# Altium integrated library Analog Devices Data Converters Digital-to-Analog Converters.IntLib: 2231 symbols (part 42 of 181)
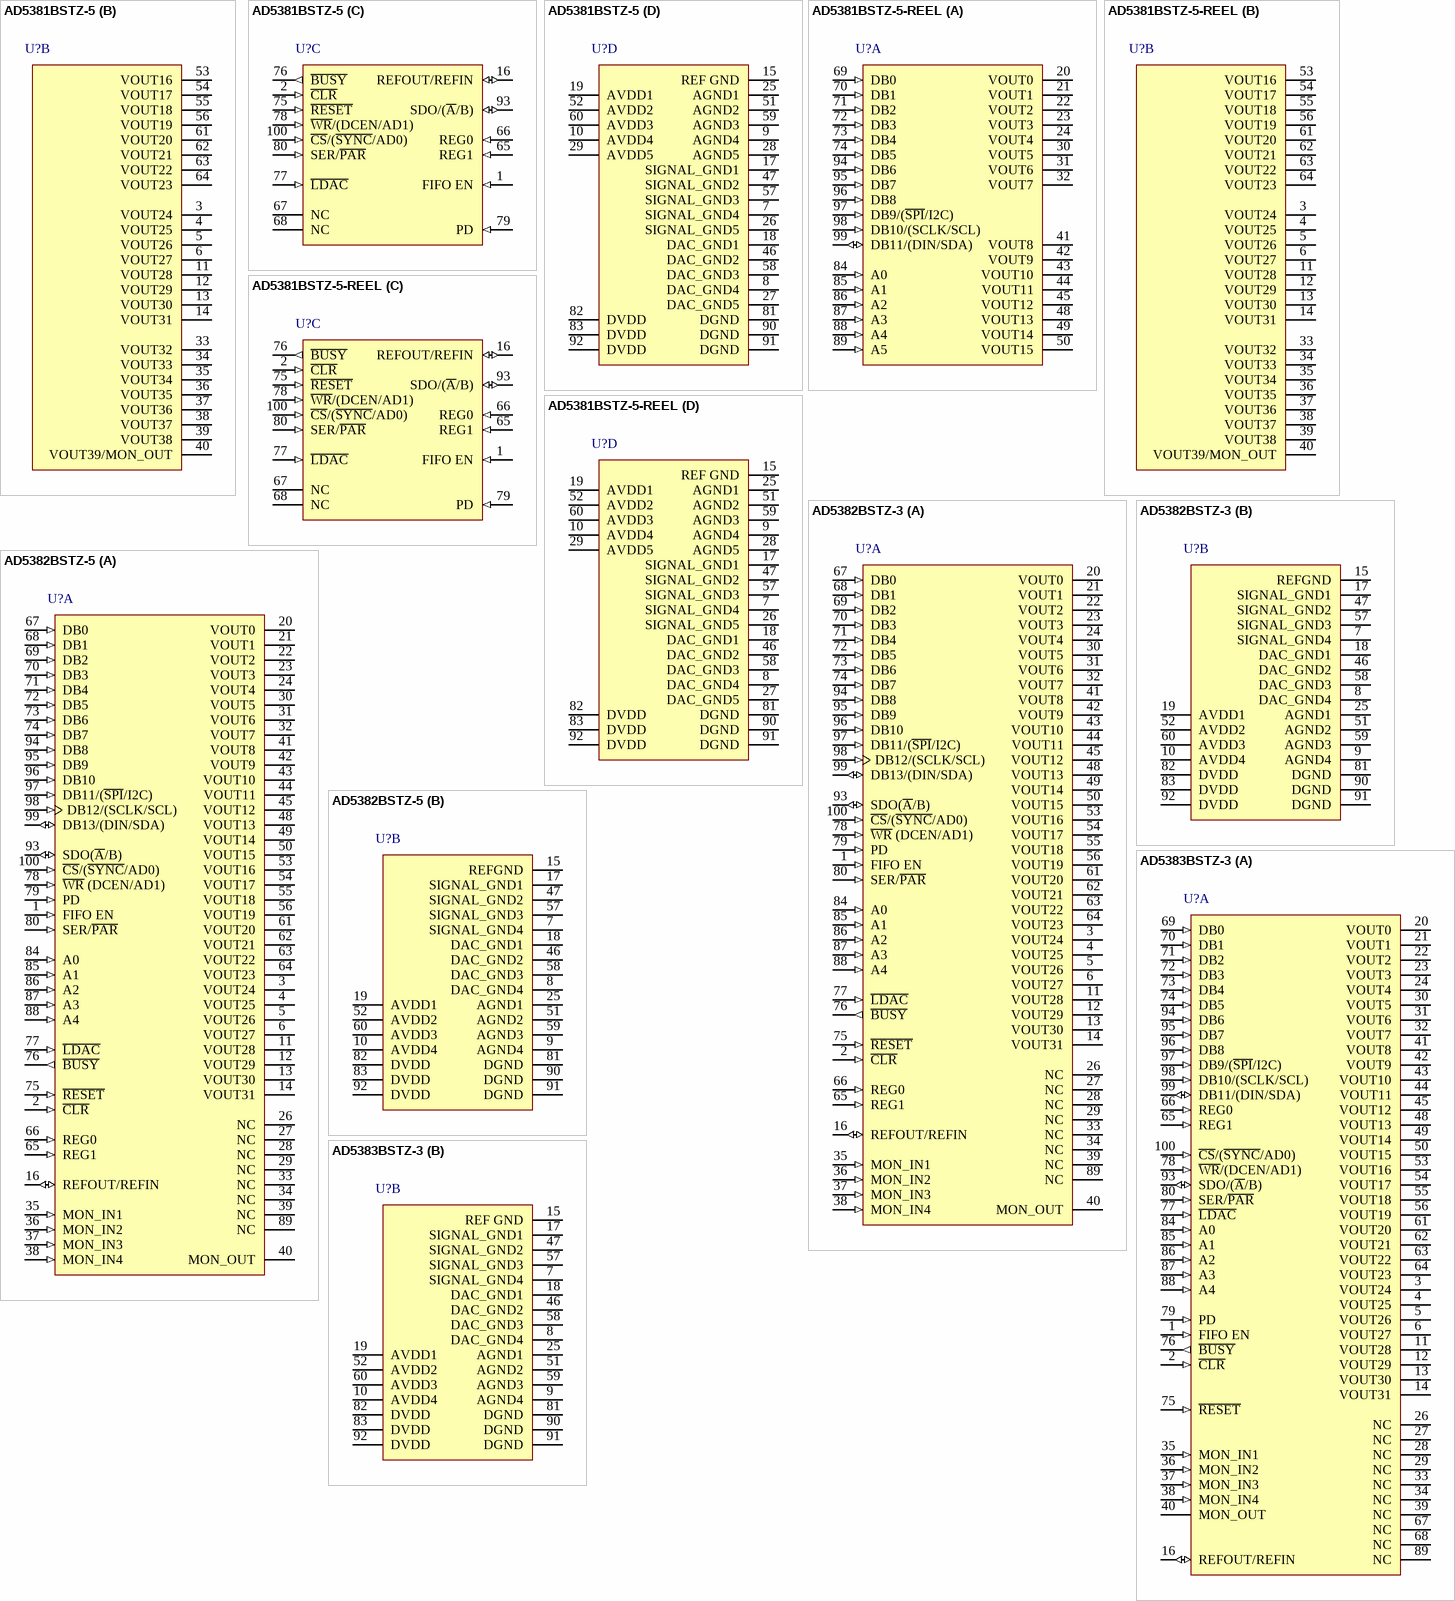
[diagram p155: symbols AD5381BSTZ-5 to AD5383BSTZ-3]

## AD5381BSTZ-5
designator U?
40 Channel 12-Bit Single-Supply Voltage Output Digital-to-Analog Converter, 5 V, -40 to +85 degC, ST-100-1, Pb-Free, Tray; Generic Part Number: AD5381; Manufacturer: Analog Devices; PartNumber: AD5381BSTZ-5; # DAC Outputs: 40; Max V+: 5.5V; Resolution (Bits): 12; Settling Time: 6µs; Single Supply: Yes; DatasheetVersion: Rev.C; PackageVersion: Jul-2007; PackageReference: ST-100-1; PackageDescription: 100-Lead Low Profile Quad Flat Package, 14 x 14 x 1.4 mm Body [LQFP]; Supplier 1: Digi-Key; Supplier Part Number 1: AD5381BSTZ-5-ND; Supplier 2: Mouser; Supplier Part Number 2: 584-AD5381BSTZ-5; Packing: Tray; RoHS: Y; Mounting Technology: Surface Mount; Code_JEDEC: MS-026-BED; ComponentLink1Description: Manufacturer URL; ComponentLink1URL: http://www.analog.com/en/index.html; ComponentLink2Description: Datasheet; ComponentLink2URL: http://www.analog.com/static/imported-files/data_sheets/AD5381.pdf; ComponentLink3Description: Package Specification; ComponentLink3URL: http://www.analog.com/static/imported-files/packages/92490886ST_100_1.pdf; ComponentLink4Description: Product URL; ComponentLink4URL: http://www.analog.com/en/digital-to-analog-converters/da-converters/ad5381/products/product.html; ComponentLink5Description: Reference Design URL; ComponentLink5URL: http://www.analog.com/en/digital-to-analog-converters/da-converters/ad5381/products/product.html#prod_cross_sell
footprint ST-100-1_V (Thin QFP, 100-Leads, Body 14x14mm, Pitch 0.5mm, AD Recommended)
footprint ST-100-1_N (Thin QFP, 100-Leads, Body 14x14mm, Pitch 0.5mm, IPC Medium Density)
footprint ST-100-1_L (Thin QFP, 100-Leads, Body 14x14mm, Pitch 0.5mm, IPC High Density)
footprint ST-100-1_M (Thin QFP, 100-Leads, Body 14x14mm, Pitch 0.5mm, IPC Low Density)
part A pins: 20 VOUT0 (hiz) "Buffered Analog Output for Channel 0. Each analog output is driven by a rail-to-rail output amplifier operating at a gain of 2. Each output is capable of driving an output load of 5 kohm to ground. Typical output impedance (See Datasheet)", 21 VOUT1 (hiz) "Buffered Analog Output for Channel 1. Each analog output is driven by a rail-to-rail output amplifier operating at a gain of 2. Each output is capable of driving an output load of 5 kohm to ground. Typical output impedance (See Datasheet)", 22 VOUT2 (hiz) "Buffered Analog Output for Channel 2. Each analog output is driven by a rail-to-rail output amplifier operating at a gain of 2. Each output is capable of driving an output load of 5 kohm to ground. Typical output impedance (See Datasheet)", 23 VOUT3 (hiz) "Buffered Analog Output for Channel 3. Each analog output is driven by a rail-to-rail output amplifier operating at a gain of 2. Each output is capable of driving an output load of 5 kohm to ground. Typical output impedance (See Datasheet)", 24 VOUT4 (hiz) "Buffered Analog Output for Channel 4. Each analog output is driven by a rail-to-rail output amplifier operating at a gain of 2. Each output is capable of driving an output load of 5 kohm to ground. Typical output impedance (See Datasheet)", 30 VOUT5 (hiz) "Buffered Analog Output for Channel 5. Each analog output is driven by a rail-to-rail output amplifier operating at a gain of 2. Each output is capable of driving an output load of 5 kohm to ground. Typical output impedance (See Datasheet)", 31 VOUT6 (hiz) "Buffered Analog Output for Channel 6. Each analog output is driven by a rail-to-rail output amplifier operating at a gain of 2. Each output is capable of driving an output load of 5 kohm to ground. Typical output impedance (See Datasheet)", 32 VOUT7 (hiz) "Buffered Analog Output for Channel 7. Each analog output is driven by a rail-to-rail output amplifier operating at a gain of 2. Each output is capable of driving an output load of 5 kohm to ground. Typical output impedance (See Datasheet)", 41 VOUT8 (hiz) "Buffered Analog Output for Channel 8. Each analog output is driven by a rail-to-rail output amplifier operating at a gain of 2. Each output is capable of driving an output load of 5 kohm to ground. Typical output impedance (See Datasheet)", 42 VOUT9 (hiz) "Buffered Analog Output for Channel 9. Each analog output is driven by a rail-to-rail output amplifier operating at a gain of 2. Each output is capable of driving an output load of 5 kohm to ground. Typical output impedance (See Datasheet)", 43 VOUT10 (hiz) "Buffered Analog Output for Channel 10. Each analog output is driven by a rail-to-rail output amplifier operating at a gain of 2. Each output is capable of driving an output load of 5 kohm to ground. Typical output impedance (See Datasheet)", 44 VOUT11 (hiz) "Buffered Analog Output for Channel 11. Each analog output is driven by a rail-to-rail output amplifier operating at a gain of 2. Each output is capable of driving an output load of 5 kohm to ground. Typical output impedance (See Datasheet)", 45 VOUT12 (hiz) "Buffered Analog Output for Channel 12. Each analog output is driven by a rail-to-rail output amplifier operating at a gain of 2. Each output is capable of driving an output load of 5 kohm to ground. Typical output impedance (See Datasheet)", 48 VOUT13 (hiz) "Buffered Analog Output for Channel 13. Each analog output is driven by a rail-to-rail output amplifier operating at a gain of 2. Each output is capable of driving an output load of 5 kohm to ground. Typical output impedance (See Datasheet)", 49 VOUT14 (hiz) "Buffered Analog Output for Channel 14. Each analog output is driven by a rail-to-rail output amplifier operating at a gain of 2. Each output is capable of driving an output load of 5 kohm to ground. Typical output impedance (See Datasheet)", 50 VOUT15 (hiz) "Buffered Analog Output for Channel 15. Each analog output is driven by a rail-to-rail output amplifier operating at a gain of 2. Each output is capable of driving an output load of 5 kohm to ground. Typical output impedance (See Datasheet)", 69 DB0 (in) "Parallel Data Bus.DB0 is the LSB of the input data-word on the AD5381.", 70 DB1 (in) "Parallel Data Bus.", 71 DB2 (in) "Parallel Data Bus.", 72 DB3 (in) "Parallel Data Bus.", 73 DB4 (in) "Parallel Data Bus.", 74 DB5 (in) "Parallel Data Bus.", 84 A0 (in) "Parallel Address Input. A5 to A0 are decoded to address one of the AD5381's 40 input channels. Used in conjunction with the REG1 and REG0 pins to determine the destination register for the input data.", 85 A1 (in) "Parallel Address Input. A5 to A0 are decoded to address one of the AD5381's 40 input channels. Used in conjunction with the REG1 and REG0 pins to determine the destination register for the input data.", 86 A2 (in) "Parallel Address Input. A5 to A0 are decoded to address one of the AD5381's 40 input channels. Used in conjunction with the REG1 and REG0 pins to determine the destination register for the input data.", 87 A3 (in) "Parallel Address Input. A5 to A0 are decoded to address one of the AD5381's 40 input channels. Used in conjunction with the REG1 and REG0 pins to determine the destination register for the input data.", 88 A4 (in) "Parallel Address Input. A5 to A0 are decoded to address one of the AD5381's 40 input channels. Used in conjunction with the REG1 and REG0 pins to determine the destination register for the input data.", 89 A5 (in) "Parallel Address Input. A5 to A0 are decoded to address one of the AD5381's 40 input channels. Used in conjunction with the REG1 and REG0 pins to determine the destination register for the input data.", 94 DB6 (in) "Parallel Data Bus.", 95 DB7 (in) "Parallel Data Bus.", 96 DB8 (in) "Parallel Data Bus.", 97 DB9/(~{SPI}/I2C) (in) "Multifunction Input Pin. In parallel interface mode, this pin acts as DB9 of the parallel input data-word. In serial interface mode, this pin acts as serial interface mode select. When serial interface mode is selected (See Datasheet)", 98 DB10/(SCLK/SCL) (in) "Multifunction Input Pin. In parallel interface mode, this pin acts as DB10 of the parallel input data-word. In serial interface mode, this pin acts as a serial clock input. Serial Interface Mode. In serial interface mode, (See Datasheet)", 99 DB11/(DIN/SDA) (io) "Multifunction Data Input Pin. In parallel interface mode, this pin acts as DB11 of the parallel input data-word. Serial Interface Mode. In serial interface mode, this pin acts as the serial data input. Data must be valid on (See Datasheet)"
part B pins: 3 VOUT24 (hiz) "Buffered Analog Output for Channel 24. Each analog output is driven by a rail-to-rail output amplifier operating at a gain of 2. Each output is capable of driving an output load of 5 kohm to ground. Typical output impedance (See Datasheet)", 4 VOUT25 (hiz) "Buffered Analog Output for Channel 25. Each analog output is driven by a rail-to-rail output amplifier operating at a gain of 2. Each output is capable of driving an output load of 5 kohm to ground. Typical output impedance (See Datasheet)", 5 VOUT26 (hiz) "Buffered Analog Output for Channel 26. Each analog output is driven by a rail-to-rail output amplifier operating at a gain of 2. Each output is capable of driving an output load of 5 kohm to ground. Typical output impedance (See Datasheet)", 6 VOUT27 (hiz) "Buffered Analog Output for Channel 27. Each analog output is driven by a rail-to-rail output amplifier operating at a gain of 2. Each output is capable of driving an output load of 5 kohm to ground. Typical output impedance (See Datasheet)", 11 VOUT28 (hiz) "Buffered Analog Output for Channel 28. Each analog output is driven by a rail-to-rail output amplifier operating at a gain of 2. Each output is capable of driving an output load of 5 kohm to ground. Typical output impedance (See Datasheet)", 12 VOUT29 (hiz) "Buffered Analog Output for Channel 29. Each analog output is driven by a rail-to-rail output amplifier operating at a gain of 2. Each output is capable of driving an output load of 5 kohm to ground. Typical output impedance (See Datasheet)", 13 VOUT30 (hiz) "Buffered Analog Output for Channel 30. Each analog output is driven by a rail-to-rail output amplifier operating at a gain of 2. Each output is capable of driving an output load of 5 kohm to ground. Typical output impedance (See Datasheet)", 14 VOUT31 (hiz) "Buffered Analog Output for Channel 31. Each analog output is driven by a rail-to-rail output amplifier operating at a gain of 2. Each output is capable of driving an output load of 5 kohm to ground. Typical output impedance (See Datasheet)", 33 VOUT32 (hiz) "Buffered Analog Output for Channel 32. Each analog output is driven by a rail-to-rail output amplifier operating at a gain of 2. Each output is capable of driving an output load of 5 kohm to ground. Typical output impedance (See Datasheet)", 34 VOUT33 (hiz) "Buffered Analog Output for Channel 33. Each analog output is driven by a rail-to-rail output amplifier operating at a gain of 2. Each output is capable of driving an output load of 5 kohm to ground. Typical output impedance (See Datasheet)", 35 VOUT34 (hiz) "Buffered Analog Output for Channel 34. Each analog output is driven by a rail-to-rail output amplifier operating at a gain of 2. Each output is capable of driving an output load of 5 kohm to ground. Typical output impedance (See Datasheet)", 36 VOUT35 (hiz) "Buffered Analog Output for Channel 35. Each analog output is driven by a rail-to-rail output amplifier operating at a gain of 2. Each output is capable of driving an output load of 5 kohm to ground. Typical output impedance (See Datasheet)", 37 VOUT36 (hiz) "Buffered Analog Output for Channel 36. Each analog output is driven by a rail-to-rail output amplifier operating at a gain of 2. Each output is capable of driving an output load of 5 kohm to ground. Typical output impedance (See Datasheet)", 38 VOUT37 (hiz) "Buffered Analog Output for Channel 37. Each analog output is driven by a rail-to-rail output amplifier operating at a gain of 2. Each output is capable of driving an output load of 5 kohm to ground. Typical output impedance (See Datasheet)", 39 VOUT38 (hiz) "Buffered Analog Output for Channel 38. Each analog output is driven by a rail-to-rail output amplifier operating at a gain of 2. Each output is capable of driving an output load of 5 kohm to ground. Typical output impedance (See Datasheet)", 40 VOUT39/MON_OUT (hiz) "This pin has a dual function. It acts as a buffered output for Channel 39 in default mode. However, when the monitor function is enabled, this pin acts as the output of a 39-to-1 channel multiplexer that can be programmed to (See Datasheet)", 53 VOUT16 (hiz) "Buffered Analog Output for Channel 16. Each analog output is driven by a rail-to-rail output amplifier operating at a gain of 2. Each output is capable of driving an output load of 5 kohm to ground. Typical output impedance (See Datasheet)", 54 VOUT17 (hiz) "Buffered Analog Output for Channel 17. Each analog output is driven by a rail-to-rail output amplifier operating at a gain of 2. Each output is capable of driving an output load of 5 kohm to ground. Typical output impedance (See Datasheet)", 55 VOUT18 (hiz) "Buffered Analog Output for Channel 18. Each analog output is driven by a rail-to-rail output amplifier operating at a gain of 2. Each output is capable of driving an output load of 5 kohm to ground. Typical output impedance (See Datasheet)", 56 VOUT19 (hiz) "Buffered Analog Output for Channel 19. Each analog output is driven by a rail-to-rail output amplifier operating at a gain of 2. Each output is capable of driving an output load of 5 kohm to ground. Typical output impedance (See Datasheet)", 61 VOUT20 (hiz) "Buffered Analog Output for Channel 20. Each analog output is driven by a rail-to-rail output amplifier operating at a gain of 2. Each output is capable of driving an output load of 5 kohm to ground. Typical output impedance (See Datasheet)", 62 VOUT21 (hiz) "Buffered Analog Output for Channel 21. Each analog output is driven by a rail-to-rail output amplifier operating at a gain of 2. Each output is capable of driving an output load of 5 kohm to ground. Typical output impedance (See Datasheet)", 63 VOUT22 (hiz) "Buffered Analog Output for Channel 22. Each analog output is driven by a rail-to-rail output amplifier operating at a gain of 2. Each output is capable of driving an output load of 5 kohm to ground. Typical output impedance (See Datasheet)", 64 VOUT23 (hiz) "Buffered Analog Output for Channel 23. Each analog output is driven by a rail-to-rail output amplifier operating at a gain of 2. Each output is capable of driving an output load of 5 kohm to ground. Typical output impedance (See Datasheet)"
part C pins: 1 FIFO EN (in) "FIFO Enable (Level Sensitive, Active High). When connected to DVDD, the internal FIFO is enabled, allowing the user to write to the device at full speed. FIFO is only available in parallel interface mode. The status of the (See Datasheet)", 2 ~{CLR} (in) "Asynchronous Clear Input. The C\L\R\ input is falling edge sensitive. When C\L\R\ is activated, all channels are updated with the data contained in the C\L\R\ code register. B\U\S\Y\ is low for a duration of 35 us while all (See Datasheet)", 16 REFOUT/REFIN (io) "The AD5381 Contains a Common REFOUT/REFIN Pin. When the internal reference is selected, this pin is the reference output. If the application requires an external reference, it can be applied to this pin and the internal (See Datasheet)", 65 REG1 (in) "In parallel interface mode, REG1 and REG0 are used in decoding the destination registers for the input data. REG1 and REG0 are decoded to address the input data register, offset register, or gain register for the selected (See Datasheet)", 66 REG0 (in) "In parallel interface mode, REG1 and REG0 are used in decoding the destination registers for the input data. REG1 and REG0 are decoded to address the input data register, offset register, or gain register for the selected (See Datasheet)", 67 NC "No Connect. The user is advised not to connect any signal to these pins.", 68 NC "No Connect. The user is advised not to connect any signal to these pins.", 75 ~{RESET} (in) "Asynchronous Digital Reset Input (Falling Edge Sensitive). The function of this pin is equivalent to that of the power-on reset generator. When this pin is taken low, the state machine initiates a reset sequence to digitally (See Datasheet)", 76 ~{BUSY} (out) "Digital CMOS Output. B\U\S\Y\ goes low during internal calculations of the data (x2) loaded to the DAC data register. During this time, the user can continue writing new data to the x1, c, and m registers in parallel mode (See Datasheet)", 77 ~{LDAC} (in) "Load DAC Logic Input (Active Low). If L\D\A\C\ is taken low while B\U\S\Y\ is inactive (high), the contents of the input registers are transferred to the DAC registers and the DAC outputs are updated. If L\D\A\C\ is taken (See Datasheet)", 78 ~{WR}/(DCEN/AD1) (in) "Multifunction Pin. In parallel interface mode, this pin acts as write enable. In serial interface mode, this pin acts as a daisy-chain enable in SPI mode, and as a hardware address pin in I2C mode. Parallel Interface Write (See Datasheet)", 79 PD (in) "Power Down (Level Sensitive, Active High). PD is used to place the device in low power mode where the device consumes 2 uA analog supply current and 20 uA digital supply current. In power-down mode, all internal analog (See Datasheet)", 80 SER/~{PAR} (in) "Interface Select Input. This pin allows the user to select whether the serial or parallel interface is used. If it is tied high, the serial interface mode is selected and Pin 97 (S\P\I\/I2C) is used to determine if the (See Datasheet)", 93 SDO/(~{A}/B) (io) "Serial Data Output in Serial Interface Mode. Three-stateable CMOS output. SDO can be used for daisy-chaining a number of devices together. Data is clocked out on SDO on the rising edge of SCLK, and is valid on the falling (See Datasheet)", 100 ~{CS}/(~{SYNC}/AD0) (in) "In parallel interface mode, this pin acts as chip select input (level sensitive, active low). When low, the AD5381 is selected. Serial Interface Mode. This is the frame synchronization input signal for the serial clock and (See Datasheet)"
part D pins: 7 SIGNAL_GND4 (power) "Analog Ground Reference Points for Each Group of Eight Output Channels. All SIGNAL_GND pins are tied together internally and should be connected to the AGND plane as close as possible to the AD5381.", 8 DAC_GND4 (power) "Each group of eight channels contains a DAC_GND pin. This is the ground reference point for the internal 12-bit DAC. These pins shound be connected to the AGND plane.", 9 AGND4 (power) "Analog Ground Reference Point. Each group of eight channels contains an AGND pin. All AGND pins should be connected externally to the AGND plane.", 10 AVDD4 (power) "Analog Supply Pin. Each group of eight channels has a separate AVDD pin. These pins are shorted internally and should be decoupled with a 0.1 uF ceramic capacitor and 10 uF tantalum capacitor. Operating range for the (See Datasheet)", 15 REF GND (power) "Ground Reference Point for the Internal Reference.", 17 SIGNAL_GND1 (power) "Analog Ground Reference Points for Each Group of Eight Output Channels. All SIGNAL_GND pins are tied together internally and should be connected to the AGND plane as close as possible to the AD5383.", 18 DAC_GND1 (power) "Each group of eight channels contains a DAC_GND pin. This is the ground reference point for the internal 12-bit DAC. These pins shound be connected to the AGND plane.", 19 AVDD1 (power) "Analog Supply Pin. Each group of eight channels has a separate AVDD pin. These pins are shorted internally and should be decoupled with a 0.1 uF ceramic capacitor and 10 uF tantalum capacitor. Operating range for the (See Datasheet)", 25 AGND1 (power) "Analog Ground Reference Point. Each group of eight channels contains an AGND pin. All AGND pins should be connected externally to the AGND plane.", 26 SIGNAL_GND5 (power) "Analog Ground Reference Points for Each Group of Eight Output Channels. All SIGNAL_GND pins are tied together internally and should be connected to the AGND plane as close as possible to the AD5381.", 27 DAC_GND5 (power) "Each group of eight channels contains a DAC_GND pin. This is the ground reference point for the internal 12-bit DAC. These pins shound be connected to the AGND plane.", 28 AGND5 (power) "Analog Ground Reference Point. Each group of eight channels contains an AGND pin. All AGND pins should be connected externally to the AGND plane.", 29 AVDD5 (power) "Analog Supply Pin. Each group of eight channels has a separate AVDD pin. These pins are shorted internally and should be decoupled with a 0.1 uF ceramic capacitor and 10 uF tantalum capacitor. Operating range for the (See Datasheet)", 46 DAC_GND2 (power) "Each group of eight channels contains a DAC_GND pin. This is the ground reference point for the internal 12-bit DAC. These pins shound be connected to the AGND plane.", 47 SIGNAL_GND2 (power) "Analog Ground Reference Points for Each Group of Eight Output Channels. All SIGNAL_GND pins are tied together internally and should be connected to the AGND plane as close as possible to the AD5381.", 51 AGND2 (power) "Analog Ground Reference Point. Each group of eight channels contains an AGND pin. All AGND pins should be connected externally to the AGND plane.", 52 AVDD2 (power) "Analog Supply Pin. Each group of eight channels has a separate AVDD pin. These pins are shorted internally and should be decoupled with a 0.1 uF ceramic capacitor and 10 uF tantalum capacitor. Operating range for the (See Datasheet)", 57 SIGNAL_GND3 (power) "Analog Ground Reference Points for Each Group of Eight Output Channels. All SIGNAL_GND pins are tied together internally and should be connected to the AGND plane as close as possible to the AD5381.", 58 DAC_GND3 (power) "Each group of eight channels contains a DAC_GND pin. This is the ground reference point for the internal 12-bit DAC. These pins shound be connected to the AGND plane.", 59 AGND3 (power) "Analog Ground Reference Point. Each group of eight channels contains an AGND pin. All AGND pins should be connected externally to the AGND plane.", 60 AVDD3 (power) "Analog Supply Pin. Each group of eight channels has a separate AVDD pin. These pins are shorted internally and should be decoupled with a 0.1 uF ceramic capacitor and 10 uF tantalum capacitor. Operating range for the (See Datasheet)", 81 DGND (power) "Ground for All Digital Circuitry.", 82 DVDD (power) "Logic Power Supply. Guaranteed operating range is 2.7 V to 5.5 V. It is recommended that these pins be decoupled with 0.1 uF ceramic and 10 uF tantalum capacitors to DGND.", 83 DVDD (power) "Logic Power Supply. Guaranteed operating range is 2.7 V to 5.5 V. It is recommended that these pins be decoupled with 0.1 uF ceramic and 10 uF tantalum capacitors to DGND.", 90 DGND (power) "Ground for All Digital Circuitry.", 91 DGND (power) "Ground for All Digital Circuitry.", 92 DVDD (power) "Logic Power Supply. Guaranteed operating range is 2.7 V to 5.5 V. It is recommended that these pins be decoupled with 0.1 uF ceramic and 10 uF tantalum capacitors to DGND."

## AD5381BSTZ-5-REEL
designator U?
40 Channel 12-Bit Single-Supply Voltage Output Digital-to-Analog Converter, 5 V, -40 to +85 degC, ST-100-1, Pb-Free, Reel; Generic Part Number: AD5381; Manufacturer: Analog Devices; PartNumber: AD5381BSTZ-5-REEL; # DAC Outputs: 40; Max V+: 5.5V; Resolution (Bits): 12; Settling Time: 6µs; Single Supply: Yes; DatasheetVersion: Rev.C; PackageVersion: Jul-2007; PackageReference: ST-100-1; PackageDescription: 100-Lead Low Profile Quad Flat Package, 14 x 14 x 1.4 mm Body [LQFP]; Supplier 1: Digi-Key; Supplier Part Number 1: AD5381BSTZ-5-REELTR-ND; Supplier 2: Digi-Key; Supplier Part Number 2: AD5381BSTZ-5-REELCT-ND; Supplier 3: Digi-Key; Supplier Part Number 3: AD5381BSTZ-5-REELDKR-ND; Supplier 4: Mouser; Supplier Part Number 4: 584-AD5381BSTZ-5-R; Packing: Reel; RoHS: Y; Mounting Technology: Surface Mount; Code_JEDEC: MS-026-BED; ComponentLink1Description: Manufacturer URL; ComponentLink1URL: http://www.analog.com/en/index.html; ComponentLink2Description: Datasheet; ComponentLink2URL: http://www.analog.com/static/imported-files/data_sheets/AD5381.pdf; ComponentLink3Description: Package Specification; ComponentLink3URL: http://www.analog.com/static/imported-files/packages/92490886ST_100_1.pdf; ComponentLink4Description: Product URL; ComponentLink4URL: http://www.analog.com/en/digital-to-analog-converters/da-converters/ad5381/products/product.html; ComponentLink5Description: Reference Design URL; ComponentLink5URL: http://www.analog.com/en/digital-to-analog-converters/da-converters/ad5381/products/product.html#prod_cross_sell
footprint ST-100-1_V (Thin QFP, 100-Leads, Body 14x14mm, Pitch 0.5mm, AD Recommended)
footprint ST-100-1_N (Thin QFP, 100-Leads, Body 14x14mm, Pitch 0.5mm, IPC Medium Density)
footprint ST-100-1_L (Thin QFP, 100-Leads, Body 14x14mm, Pitch 0.5mm, IPC High Density)
footprint ST-100-1_M (Thin QFP, 100-Leads, Body 14x14mm, Pitch 0.5mm, IPC Low Density)
part A pins: 20 VOUT0 (hiz) "Buffered Analog Output for Channel 0. Each analog output is driven by a rail-to-rail output amplifier operating at a gain of 2. Each output is capable of driving an output load of 5 kohm to ground. Typical output impedance (See Datasheet)", 21 VOUT1 (hiz) "Buffered Analog Output for Channel 1. Each analog output is driven by a rail-to-rail output amplifier operating at a gain of 2. Each output is capable of driving an output load of 5 kohm to ground. Typical output impedance (See Datasheet)", 22 VOUT2 (hiz) "Buffered Analog Output for Channel 2. Each analog output is driven by a rail-to-rail output amplifier operating at a gain of 2. Each output is capable of driving an output load of 5 kohm to ground. Typical output impedance (See Datasheet)", 23 VOUT3 (hiz) "Buffered Analog Output for Channel 3. Each analog output is driven by a rail-to-rail output amplifier operating at a gain of 2. Each output is capable of driving an output load of 5 kohm to ground. Typical output impedance (See Datasheet)", 24 VOUT4 (hiz) "Buffered Analog Output for Channel 4. Each analog output is driven by a rail-to-rail output amplifier operating at a gain of 2. Each output is capable of driving an output load of 5 kohm to ground. Typical output impedance (See Datasheet)", 30 VOUT5 (hiz) "Buffered Analog Output for Channel 5. Each analog output is driven by a rail-to-rail output amplifier operating at a gain of 2. Each output is capable of driving an output load of 5 kohm to ground. Typical output impedance (See Datasheet)", 31 VOUT6 (hiz) "Buffered Analog Output for Channel 6. Each analog output is driven by a rail-to-rail output amplifier operating at a gain of 2. Each output is capable of driving an output load of 5 kohm to ground. Typical output impedance (See Datasheet)", 32 VOUT7 (hiz) "Buffered Analog Output for Channel 7. Each analog output is driven by a rail-to-rail output amplifier operating at a gain of 2. Each output is capable of driving an output load of 5 kohm to ground. Typical output impedance (See Datasheet)", 41 VOUT8 (hiz) "Buffered Analog Output for Channel 8. Each analog output is driven by a rail-to-rail output amplifier operating at a gain of 2. Each output is capable of driving an output load of 5 kohm to ground. Typical output impedance (See Datasheet)", 42 VOUT9 (hiz) "Buffered Analog Output for Channel 9. Each analog output is driven by a rail-to-rail output amplifier operating at a gain of 2. Each output is capable of driving an output load of 5 kohm to ground. Typical output impedance (See Datasheet)", 43 VOUT10 (hiz) "Buffered Analog Output for Channel 10. Each analog output is driven by a rail-to-rail output amplifier operating at a gain of 2. Each output is capable of driving an output load of 5 kohm to ground. Typical output impedance (See Datasheet)", 44 VOUT11 (hiz) "Buffered Analog Output for Channel 11. Each analog output is driven by a rail-to-rail output amplifier operating at a gain of 2. Each output is capable of driving an output load of 5 kohm to ground. Typical output impedance (See Datasheet)", 45 VOUT12 (hiz) "Buffered Analog Output for Channel 12. Each analog output is driven by a rail-to-rail output amplifier operating at a gain of 2. Each output is capable of driving an output load of 5 kohm to ground. Typical output impedance (See Datasheet)", 48 VOUT13 (hiz) "Buffered Analog Output for Channel 13. Each analog output is driven by a rail-to-rail output amplifier operating at a gain of 2. Each output is capable of driving an output load of 5 kohm to ground. Typical output impedance (See Datasheet)", 49 VOUT14 (hiz) "Buffered Analog Output for Channel 14. Each analog output is driven by a rail-to-rail output amplifier operating at a gain of 2. Each output is capable of driving an output load of 5 kohm to ground. Typical output impedance (See Datasheet)", 50 VOUT15 (hiz) "Buffered Analog Output for Channel 15. Each analog output is driven by a rail-to-rail output amplifier operating at a gain of 2. Each output is capable of driving an output load of 5 kohm to ground. Typical output impedance (See Datasheet)", 69 DB0 (in) "Parallel Data Bus.DB0 is the LSB of the input data-word on the AD5381.", 70 DB1 (in) "Parallel Data Bus.", 71 DB2 (in) "Parallel Data Bus.", 72 DB3 (in) "Parallel Data Bus.", 73 DB4 (in) "Parallel Data Bus.", 74 DB5 (in) "Parallel Data Bus.", 84 A0 (in) "Parallel Address Input. A5 to A0 are decoded to address one of the AD5381's 40 input channels. Used in conjunction with the REG1 and REG0 pins to determine the destination register for the input data.", 85 A1 (in) "Parallel Address Input. A5 to A0 are decoded to address one of the AD5381's 40 input channels. Used in conjunction with the REG1 and REG0 pins to determine the destination register for the input data.", 86 A2 (in) "Parallel Address Input. A5 to A0 are decoded to address one of the AD5381's 40 input channels. Used in conjunction with the REG1 and REG0 pins to determine the destination register for the input data.", 87 A3 (in) "Parallel Address Input. A5 to A0 are decoded to address one of the AD5381's 40 input channels. Used in conjunction with the REG1 and REG0 pins to determine the destination register for the input data.", 88 A4 (in) "Parallel Address Input. A5 to A0 are decoded to address one of the AD5381's 40 input channels. Used in conjunction with the REG1 and REG0 pins to determine the destination register for the input data.", 89 A5 (in) "Parallel Address Input. A5 to A0 are decoded to address one of the AD5381's 40 input channels. Used in conjunction with the REG1 and REG0 pins to determine the destination register for the input data.", 94 DB6 (in) "Parallel Data Bus.", 95 DB7 (in) "Parallel Data Bus.", 96 DB8 (in) "Parallel Data Bus.", 97 DB9/(~{SPI}/I2C) (in) "Multifunction Input Pin. In parallel interface mode, this pin acts as DB9 of the parallel input data-word. In serial interface mode, this pin acts as serial interface mode select. When serial interface mode is selected (See Datasheet)", 98 DB10/(SCLK/SCL) (in) "Multifunction Input Pin. In parallel interface mode, this pin acts as DB10 of the parallel input data-word. In serial interface mode, this pin acts as a serial clock input. Serial Interface Mode. In serial interface mode, (See Datasheet)", 99 DB11/(DIN/SDA) (io) "Multifunction Data Input Pin. In parallel interface mode, this pin acts as DB11 of the parallel input data-word. Serial Interface Mode. In serial interface mode, this pin acts as the serial data input. Data must be valid on (See Datasheet)"
part B pins: 3 VOUT24 (hiz) "Buffered Analog Output for Channel 24. Each analog output is driven by a rail-to-rail output amplifier operating at a gain of 2. Each output is capable of driving an output load of 5 kohm to ground. Typical output impedance (See Datasheet)", 4 VOUT25 (hiz) "Buffered Analog Output for Channel 25. Each analog output is driven by a rail-to-rail output amplifier operating at a gain of 2. Each output is capable of driving an output load of 5 kohm to ground. Typical output impedance (See Datasheet)", 5 VOUT26 (hiz) "Buffered Analog Output for Channel 26. Each analog output is driven by a rail-to-rail output amplifier operating at a gain of 2. Each output is capable of driving an output load of 5 kohm to ground. Typical output impedance (See Datasheet)", 6 VOUT27 (hiz) "Buffered Analog Output for Channel 27. Each analog output is driven by a rail-to-rail output amplifier operating at a gain of 2. Each output is capable of driving an output load of 5 kohm to ground. Typical output impedance (See Datasheet)", 11 VOUT28 (hiz) "Buffered Analog Output for Channel 28. Each analog output is driven by a rail-to-rail output amplifier operating at a gain of 2. Each output is capable of driving an output load of 5 kohm to ground. Typical output impedance (See Datasheet)", 12 VOUT29 (hiz) "Buffered Analog Output for Channel 29. Each analog output is driven by a rail-to-rail output amplifier operating at a gain of 2. Each output is capable of driving an output load of 5 kohm to ground. Typical output impedance (See Datasheet)", 13 VOUT30 (hiz) "Buffered Analog Output for Channel 30. Each analog output is driven by a rail-to-rail output amplifier operating at a gain of 2. Each output is capable of driving an output load of 5 kohm to ground. Typical output impedance (See Datasheet)", 14 VOUT31 (hiz) "Buffered Analog Output for Channel 31. Each analog output is driven by a rail-to-rail output amplifier operating at a gain of 2. Each output is capable of driving an output load of 5 kohm to ground. Typical output impedance (See Datasheet)", 33 VOUT32 (hiz) "Buffered Analog Output for Channel 32. Each analog output is driven by a rail-to-rail output amplifier operating at a gain of 2. Each output is capable of driving an output load of 5 kohm to ground. Typical output impedance (See Datasheet)", 34 VOUT33 (hiz) "Buffered Analog Output for Channel 33. Each analog output is driven by a rail-to-rail output amplifier operating at a gain of 2. Each output is capable of driving an output load of 5 kohm to ground. Typical output impedance (See Datasheet)", 35 VOUT34 (hiz) "Buffered Analog Output for Channel 34. Each analog output is driven by a rail-to-rail output amplifier operating at a gain of 2. Each output is capable of driving an output load of 5 kohm to ground. Typical output impedance (See Datasheet)", 36 VOUT35 (hiz) "Buffered Analog Output for Channel 35. Each analog output is driven by a rail-to-rail output amplifier operating at a gain of 2. Each output is capable of driving an output load of 5 kohm to ground. Typical output impedance (See Datasheet)", 37 VOUT36 (hiz) "Buffered Analog Output for Channel 36. Each analog output is driven by a rail-to-rail output amplifier operating at a gain of 2. Each output is capable of driving an output load of 5 kohm to ground. Typical output impedance (See Datasheet)", 38 VOUT37 (hiz) "Buffered Analog Output for Channel 37. Each analog output is driven by a rail-to-rail output amplifier operating at a gain of 2. Each output is capable of driving an output load of 5 kohm to ground. Typical output impedance (See Datasheet)", 39 VOUT38 (hiz) "Buffered Analog Output for Channel 38. Each analog output is driven by a rail-to-rail output amplifier operating at a gain of 2. Each output is capable of driving an output load of 5 kohm to ground. Typical output impedance (See Datasheet)", 40 VOUT39/MON_OUT (hiz) "This pin has a dual function. It acts as a buffered output for Channel 39 in default mode. However, when the monitor function is enabled, this pin acts as the output of a 39-to-1 channel multiplexer that can be programmed to (See Datasheet)", 53 VOUT16 (hiz) "Buffered Analog Output for Channel 16. Each analog output is driven by a rail-to-rail output amplifier operating at a gain of 2. Each output is capable of driving an output load of 5 kohm to ground. Typical output impedance (See Datasheet)", 54 VOUT17 (hiz) "Buffered Analog Output for Channel 17. Each analog output is driven by a rail-to-rail output amplifier operating at a gain of 2. Each output is capable of driving an output load of 5 kohm to ground. Typical output impedance (See Datasheet)", 55 VOUT18 (hiz) "Buffered Analog Output for Channel 18. Each analog output is driven by a rail-to-rail output amplifier operating at a gain of 2. Each output is capable of driving an output load of 5 kohm to ground. Typical output impedance (See Datasheet)", 56 VOUT19 (hiz) "Buffered Analog Output for Channel 19. Each analog output is driven by a rail-to-rail output amplifier operating at a gain of 2. Each output is capable of driving an output load of 5 kohm to ground. Typical output impedance (See Datasheet)", 61 VOUT20 (hiz) "Buffered Analog Output for Channel 20. Each analog output is driven by a rail-to-rail output amplifier operating at a gain of 2. Each output is capable of driving an output load of 5 kohm to ground. Typical output impedance (See Datasheet)", 62 VOUT21 (hiz) "Buffered Analog Output for Channel 21. Each analog output is driven by a rail-to-rail output amplifier operating at a gain of 2. Each output is capable of driving an output load of 5 kohm to ground. Typical output impedance (See Datasheet)", 63 VOUT22 (hiz) "Buffered Analog Output for Channel 22. Each analog output is driven by a rail-to-rail output amplifier operating at a gain of 2. Each output is capable of driving an output load of 5 kohm to ground. Typical output impedance (See Datasheet)", 64 VOUT23 (hiz) "Buffered Analog Output for Channel 23. Each analog output is driven by a rail-to-rail output amplifier operating at a gain of 2. Each output is capable of driving an output load of 5 kohm to ground. Typical output impedance (See Datasheet)"
part C pins: 1 FIFO EN (in) "FIFO Enable (Level Sensitive, Active High). When connected to DVDD, the internal FIFO is enabled, allowing the user to write to the device at full speed. FIFO is only available in parallel interface mode. The status of the (See Datasheet)", 2 ~{CLR} (in) "Asynchronous Clear Input. The C\L\R\ input is falling edge sensitive. When C\L\R\ is activated, all channels are updated with the data contained in the C\L\R\ code register. B\U\S\Y\ is low for a duration of 35 us while all (See Datasheet)", 16 REFOUT/REFIN (io) "The AD5381 Contains a Common REFOUT/REFIN Pin. When the internal reference is selected, this pin is the reference output. If the application requires an external reference, it can be applied to this pin and the internal (See Datasheet)", 65 REG1 (in) "In parallel interface mode, REG1 and REG0 are used in decoding the destination registers for the input data. REG1 and REG0 are decoded to address the input data register, offset register, or gain register for the selected (See Datasheet)", 66 REG0 (in) "In parallel interface mode, REG1 and REG0 are used in decoding the destination registers for the input data. REG1 and REG0 are decoded to address the input data register, offset register, or gain register for the selected (See Datasheet)", 67 NC "No Connect. The user is advised not to connect any signal to these pins.", 68 NC "No Connect. The user is advised not to connect any signal to these pins.", 75 ~{RESET} (in) "Asynchronous Digital Reset Input (Falling Edge Sensitive). The function of this pin is equivalent to that of the power-on reset generator. When this pin is taken low, the state machine initiates a reset sequence to digitally (See Datasheet)", 76 ~{BUSY} (out) "Digital CMOS Output. B\U\S\Y\ goes low during internal calculations of the data (x2) loaded to the DAC data register. During this time, the user can continue writing new data to the x1, c, and m registers in parallel mode (See Datasheet)", 77 ~{LDAC} (in) "Load DAC Logic Input (Active Low). If L\D\A\C\ is taken low while B\U\S\Y\ is inactive (high), the contents of the input registers are transferred to the DAC registers and the DAC outputs are updated. If L\D\A\C\ is taken (See Datasheet)", 78 ~{WR}/(DCEN/AD1) (in) "Multifunction Pin. In parallel interface mode, this pin acts as write enable. In serial interface mode, this pin acts as a daisy-chain enable in SPI mode, and as a hardware address pin in I2C mode. Parallel Interface Write (See Datasheet)", 79 PD (in) "Power Down (Level Sensitive, Active High). PD is used to place the device in low power mode where the device consumes 2 uA analog supply current and 20 uA digital supply current. In power-down mode, all internal analog (See Datasheet)", 80 SER/~{PAR} (in) "Interface Select Input. This pin allows the user to select whether the serial or parallel interface is used. If it is tied high, the serial interface mode is selected and Pin 97 (S\P\I\/I2C) is used to determine if the (See Datasheet)", 93 SDO/(~{A}/B) (io) "Serial Data Output in Serial Interface Mode. Three-stateable CMOS output. SDO can be used for daisy-chaining a number of devices together. Data is clocked out on SDO on the rising edge of SCLK, and is valid on the falling (See Datasheet)", 100 ~{CS}/(~{SYNC}/AD0) (in) "In parallel interface mode, this pin acts as chip select input (level sensitive, active low). When low, the AD5381 is selected. Serial Interface Mode. This is the frame synchronization input signal for the serial clock and (See Datasheet)"
part D pins: 7 SIGNAL_GND4 (power) "Analog Ground Reference Points for Each Group of Eight Output Channels. All SIGNAL_GND pins are tied together internally and should be connected to the AGND plane as close as possible to the AD5381.", 8 DAC_GND4 (power) "Each group of eight channels contains a DAC_GND pin. This is the ground reference point for the internal 12-bit DAC. These pins shound be connected to the AGND plane.", 9 AGND4 (power) "Analog Ground Reference Point. Each group of eight channels contains an AGND pin. All AGND pins should be connected externally to the AGND plane.", 10 AVDD4 (power) "Analog Supply Pin. Each group of eight channels has a separate AVDD pin. These pins are shorted internally and should be decoupled with a 0.1 uF ceramic capacitor and 10 uF tantalum capacitor. Operating range for the (See Datasheet)", 15 REF GND (power) "Ground Reference Point for the Internal Reference.", 17 SIGNAL_GND1 (power) "Analog Ground Reference Points for Each Group of Eight Output Channels. All SIGNAL_GND pins are tied together internally and should be connected to the AGND plane as close as possible to the AD5383.", 18 DAC_GND1 (power) "Each group of eight channels contains a DAC_GND pin. This is the ground reference point for the internal 12-bit DAC. These pins shound be connected to the AGND plane.", 19 AVDD1 (power) "Analog Supply Pin. Each group of eight channels has a separate AVDD pin. These pins are shorted internally and should be decoupled with a 0.1 uF ceramic capacitor and 10 uF tantalum capacitor. Operating range for the (See Datasheet)", 25 AGND1 (power) "Analog Ground Reference Point. Each group of eight channels contains an AGND pin. All AGND pins should be connected externally to the AGND plane.", 26 SIGNAL_GND5 (power) "Analog Ground Reference Points for Each Group of Eight Output Channels. All SIGNAL_GND pins are tied together internally and should be connected to the AGND plane as close as possible to the AD5381.", 27 DAC_GND5 (power) "Each group of eight channels contains a DAC_GND pin. This is the ground reference point for the internal 12-bit DAC. These pins shound be connected to the AGND plane.", 28 AGND5 (power) "Analog Ground Reference Point. Each group of eight channels contains an AGND pin. All AGND pins should be connected externally to the AGND plane.", 29 AVDD5 (power) "Analog Supply Pin. Each group of eight channels has a separate AVDD pin. These pins are shorted internally and should be decoupled with a 0.1 uF ceramic capacitor and 10 uF tantalum capacitor. Operating range for the (See Datasheet)", 46 DAC_GND2 (power) "Each group of eight channels contains a DAC_GND pin. This is the ground reference point for the internal 12-bit DAC. These pins shound be connected to the AGND plane.", 47 SIGNAL_GND2 (power) "Analog Ground Reference Points for Each Group of Eight Output Channels. All SIGNAL_GND pins are tied together internally and should be connected to the AGND plane as close as possible to the AD5381.", 51 AGND2 (power) "Analog Ground Reference Point. Each group of eight channels contains an AGND pin. All AGND pins should be connected externally to the AGND plane.", 52 AVDD2 (power) "Analog Supply Pin. Each group of eight channels has a separate AVDD pin. These pins are shorted internally and should be decoupled with a 0.1 uF ceramic capacitor and 10 uF tantalum capacitor. Operating range for the (See Datasheet)", 57 SIGNAL_GND3 (power) "Analog Ground Reference Points for Each Group of Eight Output Channels. All SIGNAL_GND pins are tied together internally and should be connected to the AGND plane as close as possible to the AD5381.", 58 DAC_GND3 (power) "Each group of eight channels contains a DAC_GND pin. This is the ground reference point for the internal 12-bit DAC. These pins shound be connected to the AGND plane.", 59 AGND3 (power) "Analog Ground Reference Point. Each group of eight channels contains an AGND pin. All AGND pins should be connected externally to the AGND plane.", 60 AVDD3 (power) "Analog Supply Pin. Each group of eight channels has a separate AVDD pin. These pins are shorted internally and should be decoupled with a 0.1 uF ceramic capacitor and 10 uF tantalum capacitor. Operating range for the (See Datasheet)", 81 DGND (power) "Ground for All Digital Circuitry.", 82 DVDD (power) "Logic Power Supply. Guaranteed operating range is 2.7 V to 5.5 V. It is recommended that these pins be decoupled with 0.1 uF ceramic and 10 uF tantalum capacitors to DGND.", 83 DVDD (power) "Logic Power Supply. Guaranteed operating range is 2.7 V to 5.5 V. It is recommended that these pins be decoupled with 0.1 uF ceramic and 10 uF tantalum capacitors to DGND.", 90 DGND (power) "Ground for All Digital Circuitry.", 91 DGND (power) "Ground for All Digital Circuitry.", 92 DVDD (power) "Logic Power Supply. Guaranteed operating range is 2.7 V to 5.5 V. It is recommended that these pins be decoupled with 0.1 uF ceramic and 10 uF tantalum capacitors to DGND."